# Altium integrated library max9914exk&plus_t.IntLib: 2 symbols
Pins are listed as number, name and electrical type; pins without a type are passive.

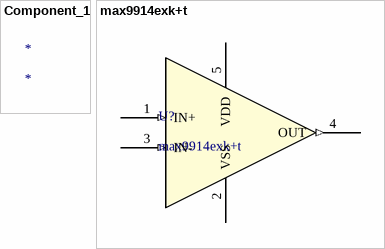
[diagram p0: symbols Component_1 to max9914exk+t]

## Component_1
designator *

## max9914exk+t
designator U?
No Description Available; SourceLibrary: Maxim_2009-12-17_3b; Built_By: EMA_UL_Team; Vendor: Maxim Integrated Products; Manufacturer_Part_Number: max9914exk+t; Copyright: Copyright (C) 2021 Accelerated Designs. All rights reserved; RefDes: RefDes; Type: DEV
footprint 21-0076E_MXM
pins: 1 IN+ (in), 2 VSS (power), 3 IN- (in), 4 OUT (out), 5 VDD (power)